# Altium schematic symbol library MCP14A0454T-E_SN.SchLib: 1 symbol
Pins are listed as number, name and electrical type; pins without a type are passive.

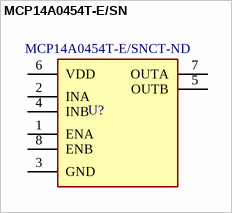
[diagram p0: symbol MCP14A0454T-E/SN]

## MCP14A0454T-E/SN
designator U?  Supplier Part Number 1: MCP14A0454T-E/SNCT-ND  (hidden comment: *)
Low-Side Gate Driver IC Non-Inverting 8-SOIC; Supplier 1: Digi-Key
footprint 8-SOIC
pins: 1 ENA, 2 INA, 3 GND, 4 INB, 5 OUTB, 6 VDD, 7 OUTA, 8 ENB